# Altium footprint library PCBLIB-PCSB.PcbLib: 179 footprints (part 1 of 12)
Each footprint in its own frame and in the unit in brackets; x right, y up, seen from the top. Pads: shape width x height; smd on the part's side, far side on the other; paste and mask are expansions set on the pad; w line width, h text height; cw(c..) or ccw(c..) is an arc to the next point about the centre after c.
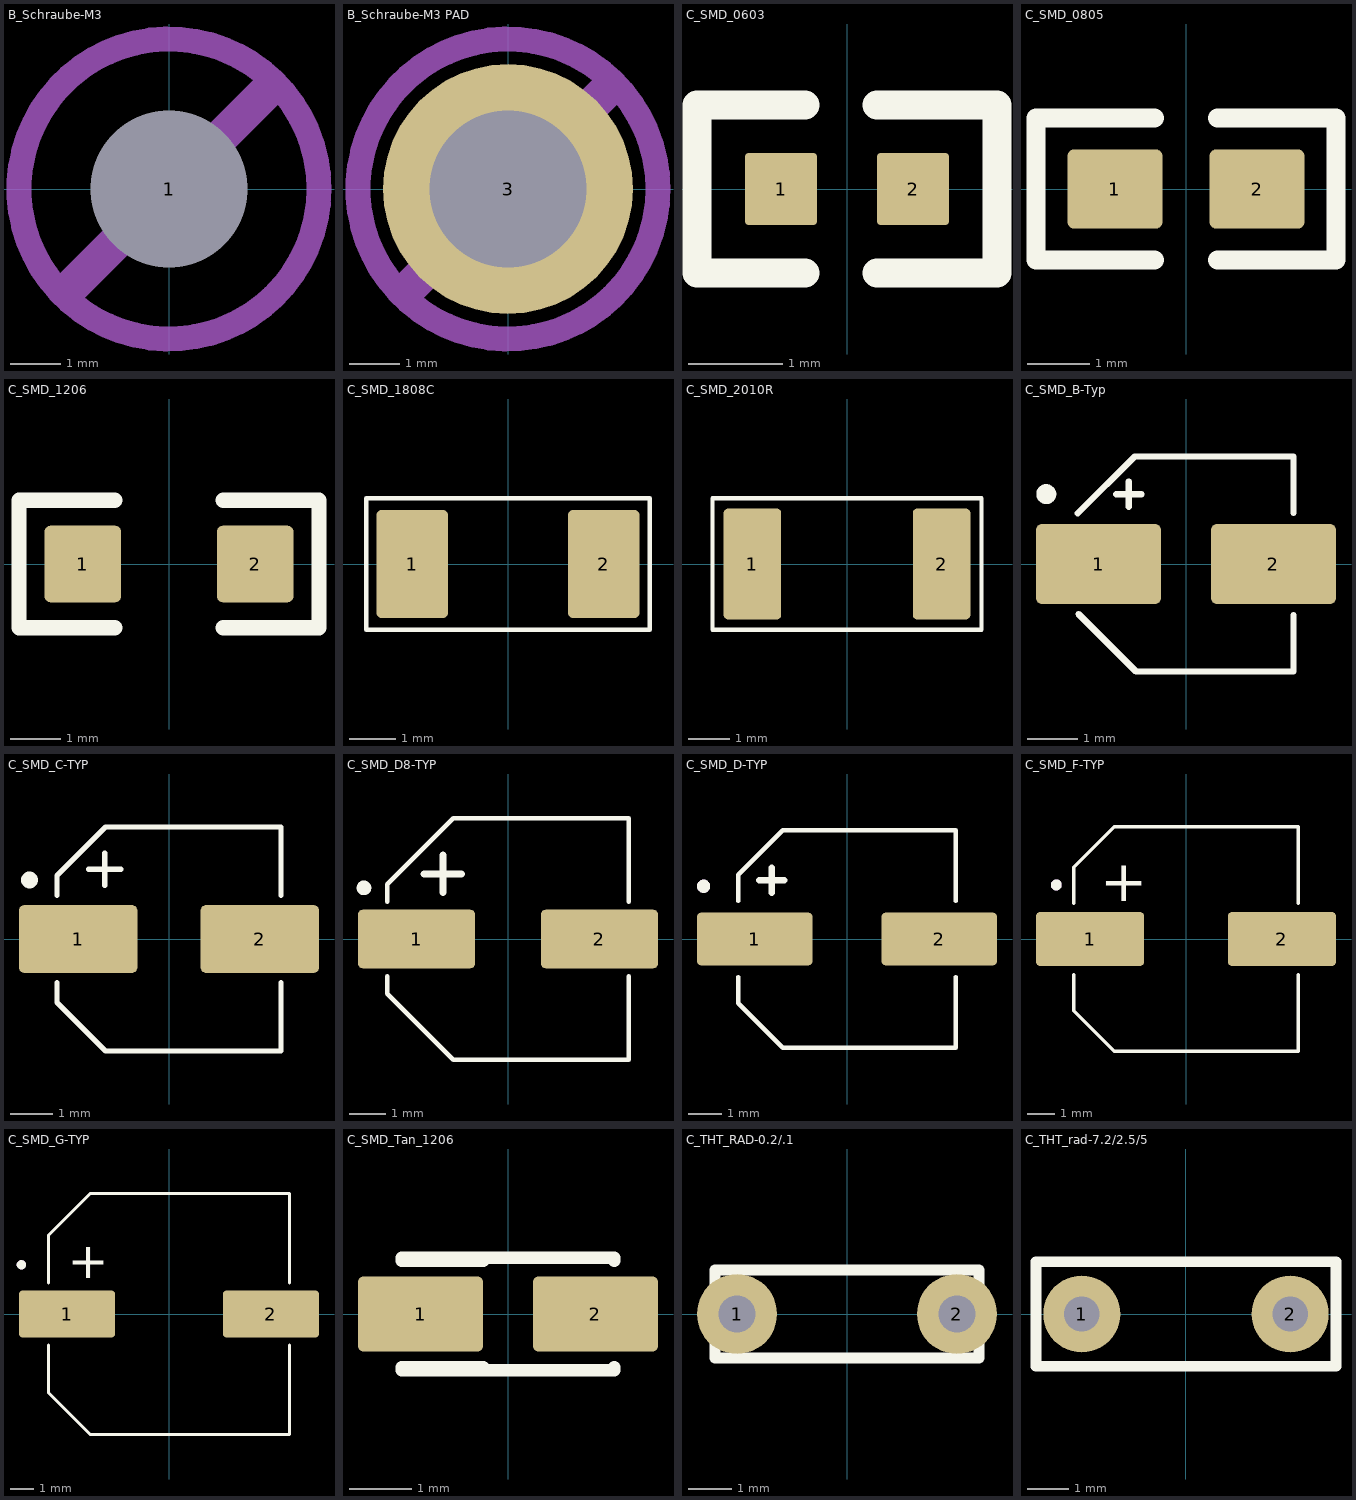
[diagram p0: the footprints below, top view; thin cyan lines are the x and y axes]

## B_Schraube-M3 [mm] "LB-2024-04-18"
pads (1):
  round 0.75 hole 3.15 unplated: 1(0,0)
Mechanical 1:
  circle w0.5: c0,0 r3
  lines w0.7: -2,-2 2,2

## B_Schraube-M3 PAD [mm] "LB-2024-04-18"
pads (1):
  round 5 hole 3.15: 3(0,0)
Mechanical 1:
  circle w0.5: c0,0 r3
  lines w0.7: -2,-2 2,2

## C_SMD_0603 [mil] "LB-2024-04-17"
pads (2):
  rrect10% 30x30 smd paste-0.79 mask+1.97: 1(-27.5,0) 2(27.5,0)
Top Overlay:
  lines w12: -17.5,-35 -62.5,-35 -62.5,35 -17.5,35 ; 12.5,-35 62.5,-35 62.5,35 12.5,35

## C_SMD_0805 [mil] "LB-2024-04-17"
pads (2):
  rrect15% 60x50 smd paste-0.79 mask+1.97: 1(-45,0) 2(45,0)
Top Overlay:
  lines w12: -20,-45 -95,-45 -95,45 -20,45 ; 20,-45 95,-45 95,45 20,45

## C_SMD_1206 [mil] "LB-2024-04-17"
pads (2):
  rrect15% 60x60 smd paste-0.79 mask+1.97: 1(-67.5,0) 2(67.5,0)
Top Overlay:
  lines w12: -42.5,-50 -117.5,-50 -117.5,50 -42.5,50 ; 42.5,-50 117.5,-50 117.5,50 42.5,50

## C_SMD_1808C [mm] "LB-2024-04-17"
height 2
pads (2):
  rrect15% 1.55x2.35 smd paste-0.02 mask+0.05: 1(-2.075,0) 2(2.075,0)
Top Overlay:
  lines w0.1: -3.075,-1.425 -3.075,1.425 3.075,1.425 3.075,-1.425 -3.075,-1.425

## C_SMD_2010R [mm] "LB-2024-04-17"
height 0.7
pads (2):
  rrect15% 1.4x2.7 smd paste-0.02 mask+0.05: 1(-2.3,0) 2(2.3,0)
Top Overlay:
  lines w0.1: -3.275,-1.6 3.275,-1.6 3.275,1.6 -3.275,1.6 -3.275,-1.6

## C_SMD_B-Typ [mm] "LB-2024-04-16"
pads (2):
  rrect15% 2.5x1.6 smd paste-0.02 mask+0.05: 1(-1.75,0) 2(1.75,0)
Top Overlay:
  circle w0.2: c-2.794,1.397 r0.1
  lines w0.127: -2.163,1.012 -1.025,2.15 2.15,2.15 2.15,1.025 ; -2.15,-1 -1,-2.15 2.15,-2.15 2.15,-1.025 ; -1.397,1.397 -0.889,1.397 ; -1.143,1.143 -1.143,1.651

## C_SMD_C-TYP [mm] "LB-2024-04-15"
pads (2):
  rrect15% 2.8x1.6 smd paste-0.02 mask+0.05: 1(-2.15,0) 2(2.15,0)
Top Overlay:
  circle w0.2: c-3.302,1.397 r0.1
  lines w0.127: -2.65,-1.033 -2.65,-1.5 -1.5,-2.65 2.65,-2.65 2.65,-1.033 ; -2.65,1.033 -2.65,1.5 ; -1.905,1.651 -1.143,1.651 ; -1.524,1.27 -1.524,2.032 ; 2.65,1.033 2.65,2.65 -1.5,2.65 ; -2.65,1.5 -1.5,2.65 ; -2.65,1.5 -1.5,2.65
3D body "EEE-FN1E470R.stp": height 0, standoff 0, extent 0,0 0,0

## C_SMD_D8-TYP [mm] "LB-2024-04-16"
pads (2):
  rrect15% 3.2x1.6 smd paste-0.02 mask+0.05: 1(-2.5,0) 2(2.5,0)
Top Overlay:
  circle w0.2: c-3.937,1.397 r0.1
  lines w0.127: -3.3,-1.018 -3.3,-1.5 -1.5,-3.3 3.3,-3.3 3.3,-1.018 ; -3.3,1.018 -3.3,1.5 -1.5,3.3 3.3,3.3 3.3,1.018
  lines w0.2: -2.286,1.778 -1.27,1.778 ; -1.778,1.27 -1.778,2.286
3D body "EEE-FK0J331XP.stp": height 0, standoff 0, extent 0,0 0,0

## C_SMD_D-TYP [mm] "LB-2024-04-16"
pads (2):
  rrect15% 3.5x1.6 smd paste-0.02 mask+0.05: 1(-2.8,0) 2(2.8,0)
Top Overlay:
  circle w0.2: c-4.35,1.6 r0.1
  lines w0.127: -3.3,-1.15 -3.3,-1.95 -1.95,-3.3 3.3,-3.3 3.3,-1.15 ; -3.3,1.15 -3.3,1.95 -1.95,3.3 3.3,3.3 3.3,1.15
  lines w0.2: -2.667,1.778 -1.905,1.778 ; -2.286,1.397 -2.286,2.159
Mechanical 13:
  circle w0.2: c-4.35,1.6 r0.1

## C_SMD_F-TYP [mm] "LB-2024-04-16"
pads (2):
  rrect15% 4x2 smd paste-0.02 mask+0.05: 1(-3.55,0) 2(3.55,0)
Top Overlay:
  circle w0.2: c-4.8,2 r0.1
  lines w0.127: -4.15,-1.32 -4.15,-2.65 -2.65,-4.15 4.15,-4.15 4.15,-1.32 ; -4.15,1.32 -4.15,2.65 -2.65,4.15 4.15,4.15 4.15,1.32
  text "+" at -3.175,1.397 h1.52
Mechanical 13:
  circle w0.2: c-4.8,2 r0.1
3D body "step_temp.STEP": height 0, standoff 0, extent 0,0 0,0

## C_SMD_G-TYP [mm] "LB-2024-04-16"
height 10.2
pads (2):
  rrect15% 4.1x2 smd paste-0.02 mask+0.05: 1(-4.35,0) 2(4.35,0)
Top Overlay:
  circle w0.2: c-6.3,2.1 r0.1
  lines w0.127: -5.15,-1.32 -5.15,-3.35 -3.35,-5.15 5.15,-5.15 5.15,-1.32 ; -5.15,1.32 -5.15,3.35 -3.35,5.15 5.15,5.15 5.15,1.32
  text "+" at -4.318,1.524 h1.52
Mechanical 13:
  circle w0.2: c-6.3,2.1 r0.1

## C_SMD_Tan_1206 [mm] "LB-2024-04-25"
height 2.2
pads (2):
  rrect15% 2x1.2 smd paste-0.02 mask+0.05: 1(-1.4,0) 2(1.4,0)
Top Overlay:
  lines w0.2: -1.7,-0.9 1.7,-0.9 1.7,-0.85 ; -1.7,-0.85 -0.4,-0.85 ; -1.7,0.85 -0.4,0.85 ; -1.7,0.9 1.7,0.9 1.7,0.85

## C_THT_RAD-0.2/.1 [mm] "LB-2024-04-17"
pads (2):
  round 1.85 hole 0.85: 1(-2.54,0) 2(2.54,0)
Top Overlay:
  lines w0.254: -3.048,-1.016 3.048,-1.016 3.048,1.016 -3.048,1.016 -3.048,-1.016

## C_THT_rad-7.2/2.5/5 [mm] "LB-2024-04-17"
pads (2):
  round 1.85 hole 0.85: 1(-2.5,0) 2(2.5,0)
Top Overlay:
  lines w0.254: -3.6,-1.25 3.6,-1.25 3.6,1.25 -3.6,1.25 -3.6,-1.25